# Altium integrated library Integrated_Library1.IntLib: 6 symbols
Pins are listed as number, name and electrical type; pins without a type are passive.

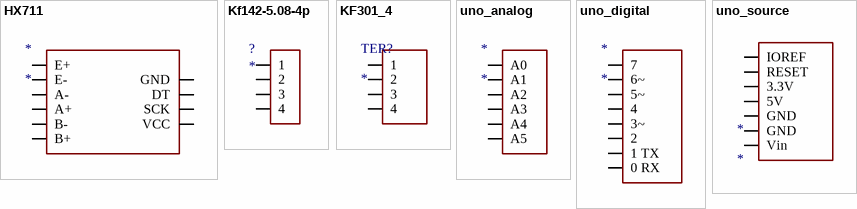
[diagram p0: symbols HX711 to uno_source]

## HX711
designator *
footprint HX711
pins: 1 E+, 2 E-, 3 A-, 4 A+, 5 B-, 6 B+, 7 GND, 8 DT, 9 SCK, 10 VCC

## Kf142-5.08-4p
designator ?
footprint Kf142-5.08-4p
pins: 1, 2, 3, 4

## KF301_4
designator TER?
footprint KF304_4
pins: 1, 2, 3, 4

## uno_analog
designator *
footprint uno_analog
pins: 0 A0, 1 A1, 2 A2, 3 A3, 4 A4, 5 A5

## uno_digital
designator *
footprint uno_digital
pins: 0 0 RX, 1 1 TX , 2, 3 3~, 4, 5 5~, 6 6~, 7

## uno_source
designator *
footprint uno_source
pins: 0 Vin, 1 GND, 2 GND, 3 5V, 4 3.3V, 5 RESET, 6 IOREF